# EAGLE library part 741X163220JP (library Resistor Array)
RES ARRAY 8 RES 22 OHM 1506 Manufacturer's datasheet <https://www.ctscorp.com/wp-content/uploads/74x.pdf>
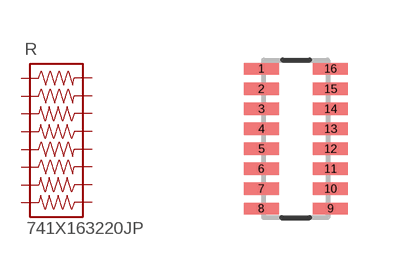
[diagram p9: symbol with the pads of 741X163220JP; footprint 741X163220JP]

Designator prefix R

## 741X163220JP (CREATED_BY: PCBLayout.com; DIGIKEY_PARTNO: 741X163220JPTR-ND; MANUFACTURER: CTS Resistor Products; MPN: 741X163220JP; PACKAGE: 1506)  [741X163220JP]
1  1  pas
2  2  pas
3  3  pas
4  4  pas
5  5  pas
6  6  pas
7  7  pas
8  8  pas
9  9  pas
10  10  pas
11  11  pas
12  12  pas
13  13  pas
14  14  pas
15  15  pas
16  16  pas

## Footprint 741X163220JP (pad centres in mm)
16-Chiparray 2-Side Convex, 0.50 mm pitch, 3.95 X 1.60 X 0.55 mm body 16-pin Chiparray 2-Side Convex package with 0.50 mm pitch with body size 3.95 X 1.60 X 0.55 mm
smd 0.878 x 0.297: 1 -0.867,1.75; 8 -0.867,-1.75; 9 0.867,-1.75; 16 0.867,1.75
smd 0.878 x 0.31: 2 -0.867,1.25; 3 -0.867,0.75; 4 -0.867,0.25; 5 -0.867,-0.25; 6 -0.867,-0.75; 7 -0.867,-1.25; 10 0.867,-1.25; 11 0.867,-0.75; 12 0.867,-0.25; 13 0.867,0.25; 14 0.867,0.75; 15 0.867,1.25